# EAGLE library part RAZOR_IMU (library imu)
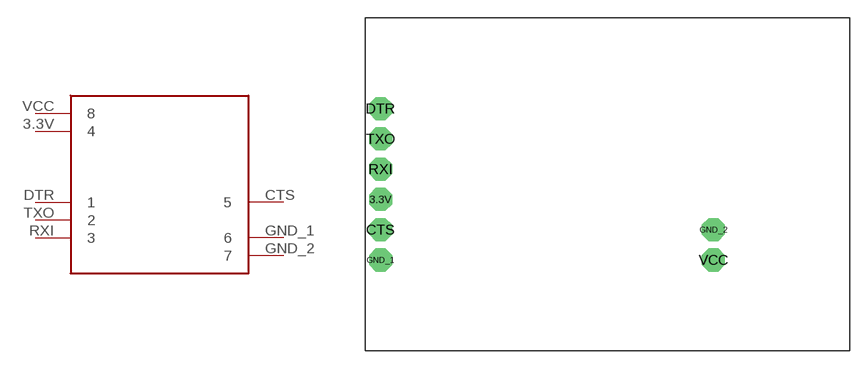
[diagram p0: symbol with the pads of RAZOR_IMU; footprint RAZOR_IMU]

Designator prefix -

## RAZOR_IMU  [RAZOR_IMU]
3.3V  4
CTS  5
DTR  1
GND_1  6
GND_2  7
RXI  3
TXO  2
VCC  8

## Footprint RAZOR_IMU (pad centres in mm)
drill 1 pad 1.93 octagon: 3.3V -19.05,-1.27; CTS -19.05,-3.81; DTR -19.05,6.35; GND_1 -19.05,-6.35; GND_2 8.89,-3.81; RXI -19.05,1.27; TXO -19.05,3.81; VCC 8.89,-6.35